# Altium schematic symbol library SBR10E45P5-7.SchLib: 1 symbol
Pins are listed as number, name and electrical type; pins without a type are passive.

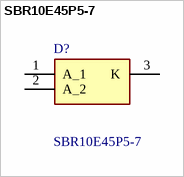
[diagram p0: symbol SBR10E45P5-7]

## SBR10E45P5-7
designator D?
45V 10A SBR SUPER BARRIER RECTIFIER PowerDI5; Manufacturer_Name: Diodes Incorporated; Geometry.Height: 1.15mm; Mouser Part Number: 621-SBR10E45P5-7; Mouser Price/Stock: https://www.mouser.co.uk/ProductDetail/Diodes-Incorporated/SBR10E45P5-7?qs=wtVJq%252Be05r%252ByalHN7cQkcg%3D%3D; Manufacturer_Part_Number: SBR10E45P5-7; Datasheet Link: https://www.diodes.com//assets/Datasheets/SBR10E45P5.pdf
footprint SBR10E45P57
pins: 1 A_1, 2 A_2, 3 K